# Altium schematic symbol library SnapEDAsch.SchLib: 1 symbol
Pins are listed as number, name and electrical type; pins without a type are passive.

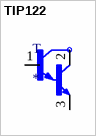
[diagram p0: symbol TIP122]

## TIP122
designator T
Bipolar _BJT_ Transistor NPN - Darlington 100V 5A 2W Through Hole TO-220AB; MP: TIP122; MF: ON Semiconductor; Package: TO-220 Fairchild Semiconductor; Value: *; Price: None; SnapEDA_Link: https://www.snapeda.com/parts/TIP122/ON%20Semiconductor/view-part/315945/?ref=snap; Availability: Unavailable
footprint TO220
pins: 1 B, 2 C, 3 E